# Altium schematic symbol library MAL214699001E3.SchLib: 1 symbol
Pins are listed as number, name and electrical type; pins without a type are passive.

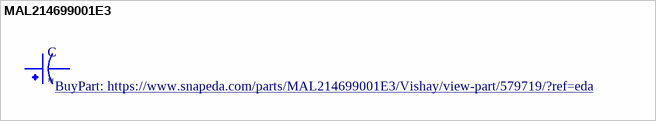
[diagram p0: symbol MAL214699001E3]

## MAL214699001E3
designator C
47ÂµF 35V Aluminum Electrolytic Capacitors Radial, Can - SMD 1500 Hrs @ 125Â°C; MF: Vishay; MP: MAL214699001E3; Arrow_Electronics-Purchase-URL: https://snapeda.com/shop?store=Arrow+Electronics&id=579719; Availability: Warning; Price: None; Value: *; SnapEDA_Link: https://www.snapeda.com/parts/MAL214699001E3/Vishay/view-part/579719/?ref=snap; Package: Radial Vishay; BuyPart: https://www.snapeda.com/parts/MAL214699001E3/Vishay/view-part/579719/?ref=eda
footprint CAPAE1050X1050N
pins: 1, 2